# Altium footprint library MC7805CD2TR4G.PcbLib: 1 footprints
Each footprint in its own frame and in the unit in brackets; x right, y up, seen from the top. Pads: shape width x height; smd on the part's side, far side on the other; paste and mask are expansions set on the pad; w line width, h text height; cw(c..) or ccw(c..) is an arc to the next point about the centre after c.
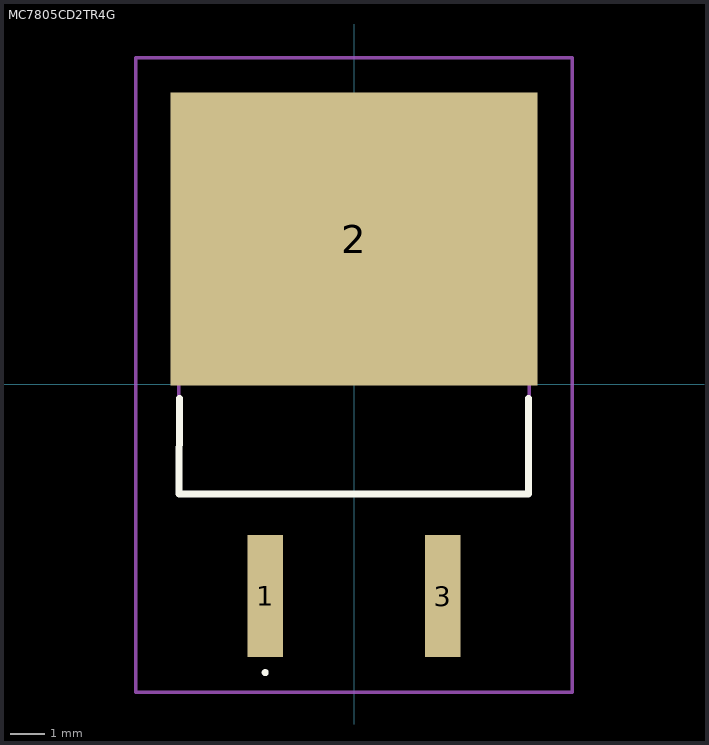
[diagram p0: the footprint, top view; thin cyan lines are the x and y axes]

## MC7805CD2TR4G [mil]
pads (3):
  rect 40x137.95 smd: 1(-100,-238.54) 3(100,-238.54)
  rect 412.99x329.92 smd: 2(0,163.54)
Top Overlay:
  lines w3.94: -100,-326.77 -100,-326.77 ; -100,-326.77 ccw(c-100,-324.8) -100,-322.83 ; -100,-326.77 cw(c-100,-324.8) -100,-322.83 ; -100,-322.83 -100,-322.83
  lines w7.87: -196.85,-15.75 -197.24,-123.43 196.85,-123.43 196.85,-15.75
Mechanical 15:
  lines w3.94: -197.24,-123.43 197.24,-123.43 197.24,238.54 -197.24,238.54 -197.24,-123.43
Mechanical 20:
  lines w3.94: -245.87,-346.89 245.87,-346.89 245.87,367.87 -245.87,367.87 -245.87,-346.89